# Altium footprint library BrewBit.PcbLib: 85 footprints (part 1 of 6)
Each footprint in its own frame and in the unit in brackets; x right, y up, seen from the top. Pads: shape width x height; smd on the part's side, far side on the other; paste and mask are expansions set on the pad; w line width, h text height; cw(c..) or ccw(c..) is an arc to the next point about the centre after c.
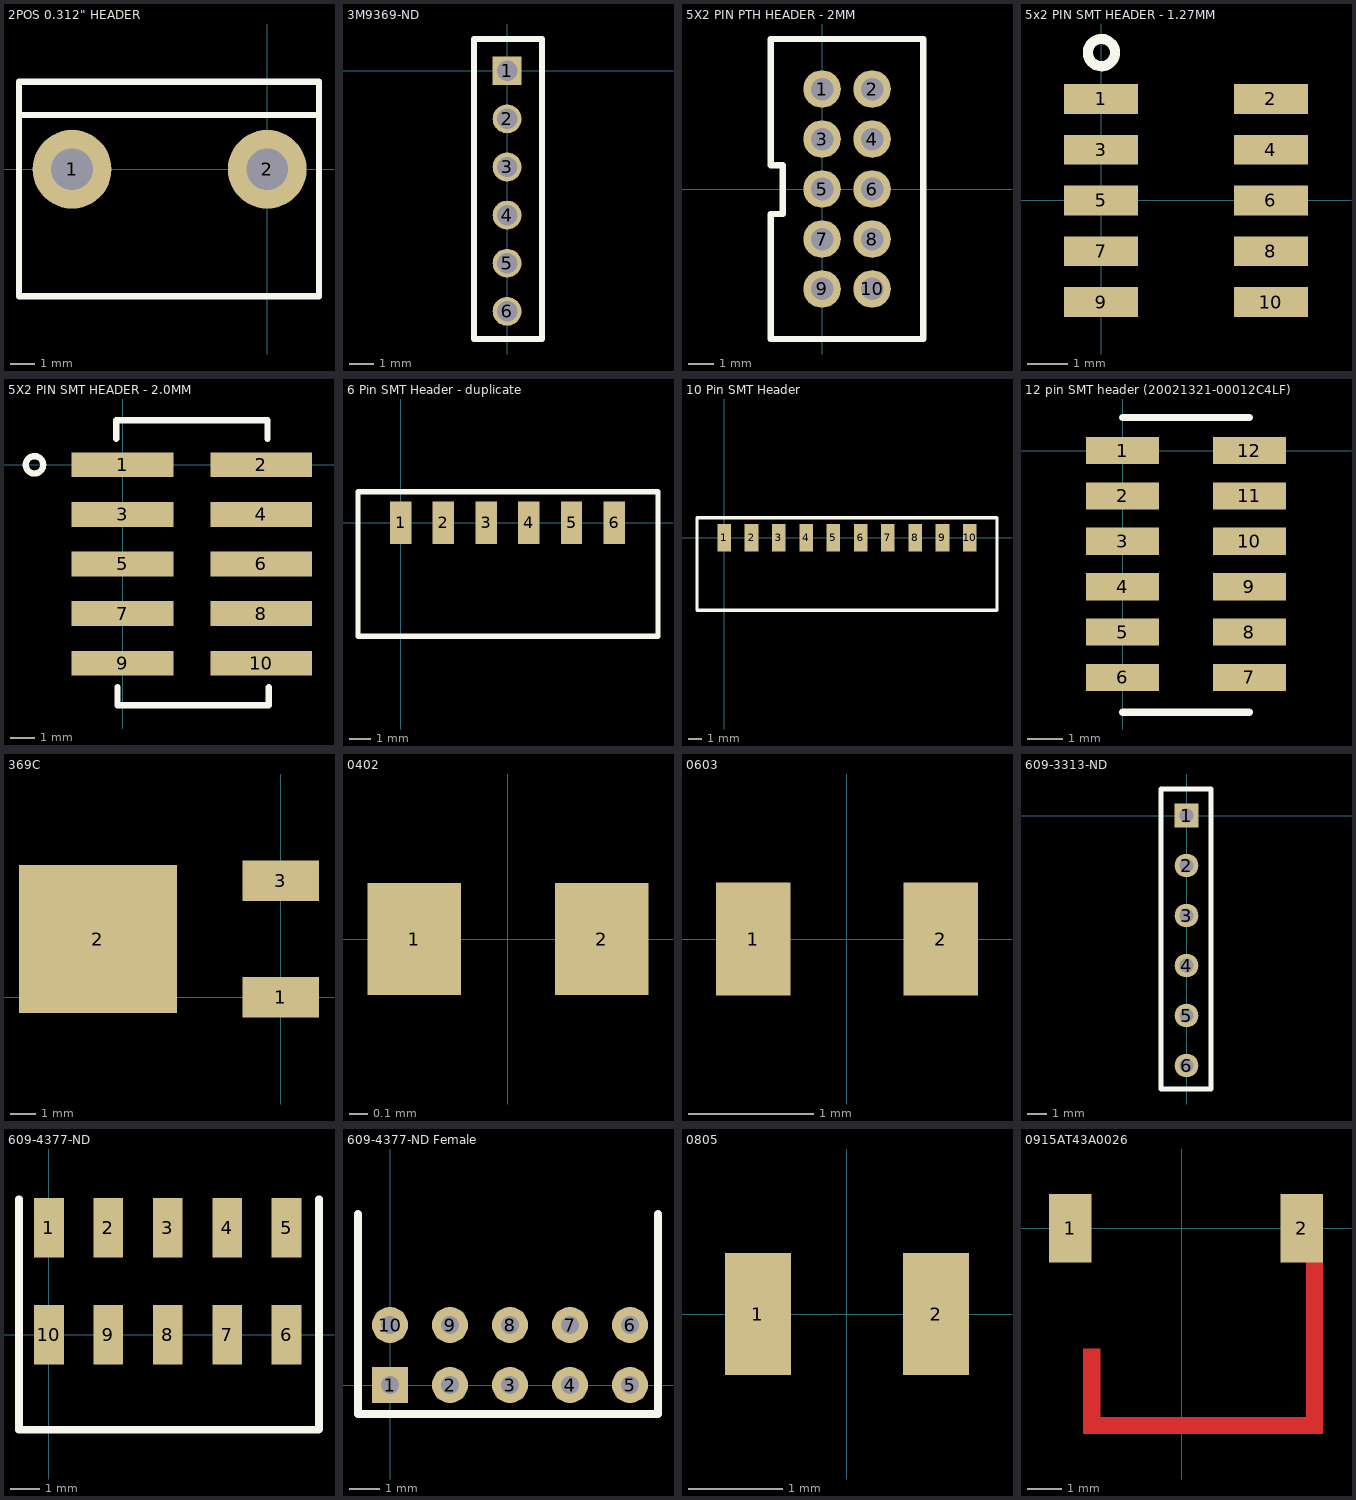
[diagram p0: the footprints below, top view; thin cyan lines are the x and y axes]

## 2POS 0.312" HEADER [mm] "CONN HEADER .312 VERT 2POS TIN"
pads (2):
  round 3.2 hole 1.7: 1(-7.92,0) 2(0,0)
Top Overlay:
  lines w0.254: -10.075,2.2 2.1,2.2 ; -10.075,-5.15 2.1,-5.15 2.1,3.55 -10.075,3.55 -10.075,-5.15

## 3M9369-ND [mm]
pads (6):
  rect 1.2x1.2 hole 0.85: 1(0,0)
  round 1.2 hole 0.85: 2(0,-2) 3(0,-4) 4(0,-6) 5(0,-8) 6(0,-10)
Top Overlay:
  lines w0.254: -1.372,-11.151 1.448,-11.151 1.448,1.321 -1.372,1.321 -1.372,-11.151

## 5X2 PIN PTH HEADER - 2MM [mm]
pads (10):
  round 1.5 hole 0.9: 1(0,4) 2(2,4) 3(0,2) 4(2,2) 5(0,0) 6(2,0) 7(0,-2) 8(2,-2) 9(0,-4) 10(2,-4)
Top Overlay:
  lines w0.254: -1.575,0.925 -1.575,-1 -2.05,-1 -2.05,-6 4.05,-6 4.05,6 -2.05,6 -2.05,0.95 -1.575,0.95

## 5x2 PIN SMT HEADER - 1.27MM [mm]
pads (10):
  rect 1.85x0.74 smd: 1(0,2.54) 2(4.25,2.54) 3(0,1.27) 4(4.25,1.27) 5(0,0) 6(4.25,0) 7(0,-1.27) 8(4.25,-1.27) 9(0,-2.54) 10(4.25,-2.54)
Top Overlay:
  circle w0.254: c0.01,3.7 r0.34

## 5X2 PIN SMT HEADER - 2.0MM [mm]
pads (10):
  rect 4.1x1 smd: 1(0,0) 2(5.6,0) 3(0,-2) 4(5.6,-2) 5(0,-4) 6(5.6,-4) 7(0,-6) 8(5.6,-6) 9(0,-8) 10(5.6,-8)
Top Overlay:
  circle w0.254: c-3.551,0 r0.351
  lines w0.254: -0.25,1.05 -0.25,1.8 5.85,1.8 5.85,1.05 ; -0.2,-8.975 -0.2,-9.7 5.9,-9.7 5.9,-8.975

## 6 Pin SMT Header - duplicate [mm] "For 3M9355TR-ND"
pads (6):
  rect 1x2 smd: 1(0,0) 2(2,0) 3(4,0) 4(6,0) 5(8,0) 6(10,0)
Top Overlay:
  lines w0.254: -2,-5.31 -2,1.45 12.05,1.45 12.05,-5.31 -2,-5.31

## 10 Pin SMT Header [mm] "For 951110-4620-AR-PR"
pads (10):
  rect 1x2 smd: 1(0,0) 2(2,0) 3(4,0) 4(6,0) 5(8,0) 6(10,0) 7(12,0) 8(14,0) 9(16,0) 10(18,0)
Top Overlay:
  lines w0.254: -2,-5.31 -2,1.45 20,1.45 20,-5.31 -2,-5.31

## 12 pin SMT header (20021321-00012C4LF) [mm]
pads (12):
  rect 2.05x0.76 smd: 1(0,0) 2(0,-1.27) 3(0,-2.54) 4(0,-3.81) 5(0,-5.08) 6(0,-6.35) 7(3.55,-6.35) 8(3.55,-5.08) 9(3.55,-3.81) 10(3.55,-2.54) 11(3.55,-1.27) 12(3.55,0)
Top Overlay:
  lines w0.2: 0,-7.325 3.55,-7.325 ; 0,0.925 3.55,0.925

## 369C [mm]
pads (3):
  rect 3x1.6 smd: 1(0,0) 3(0,4.57)
  rect 6.2x5.8 smd: 2(-7.18,2.285)

## 0402 [mm]
pads (2):
  rect 0.5x0.6 smd: 1(-0.5,0) 2(0.5,0)

## 0603 [mm]
pads (2):
  rect 0.6x0.9 smd: 1(-0.75,0) 2(0.75,0)

## 609-3313-ND [mm]
pads (6):
  rect 1.2x1.2 hole 0.7: 1(0,0)
  round 1.2 hole 0.7: 2(0,-2.54) 3(0,-5.08) 4(0,-7.62) 5(0,-10.16) 6(0,-12.7)
Top Overlay:
  lines w0.254: -1.295,-13.894 -1.295,1.346 1.245,1.346 1.245,-13.894 -1.295,-13.894

## 609-4377-ND [mm]
pads (10):
  rect 1x2 smd: 1(0,3.6) 2(2,3.6) 3(4,3.6) 4(6,3.6) 5(8,3.6) 6(8,0) 7(6,0) 8(4,0) 9(2,0) 10(0,0)
Top Overlay:
  lines w0.254: -1.009,4.568 -1.009,-3.2 9.082,-3.2 ; 9.091,-3.179 9.091,4.568

## 609-4377-ND Female [mm]
pads (10):
  rect 1.2x1.2 hole 0.6: 1(0,0)
  round 1.2 hole 0.6: 2(2,0) 3(4,0) 4(6,0) 5(8,0) 6(8,2) 7(6,2) 8(4,2) 9(2,2) 10(0,2)
Top Overlay:
  lines w0.254: -1.067,5.7 -1.067,-0.965 8.933,-0.965 8.933,5.7

## 0805 [mm]
pads (2):
  rect 0.7x1.3 smd: 1(-0.95,0) 2(0.95,0)

## 0915AT43A0026 [mm]
pads (2):
  rect 1.25x2 smd: 1(-3.251,0) 2(3.499,0)
Top Layer:
  rectangle: 3.624,-6 4.124,-0.787
  rectangle: -2.515,-6 3.759,-5.5
  rectangle: -2.876,-6 -2.376,-3.5